# EAGLE library part ADF4002 (library adf4002)
Phase Detector/Frequency Synthesizer
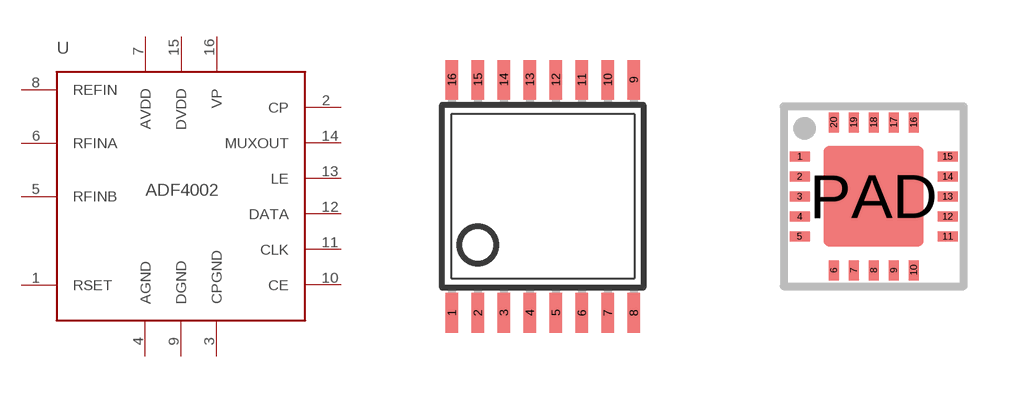
[diagram p0: symbol with the pads of TSSOP16; footprints TSSOP16, LFCSP20]

Designator prefix -

## ADF4002TSSOP16  [TSSOP16]
1  RSET
2  CP
3  CPGND
4  AGND
5  RFINB
6  RFINA
7  AVDD
8  REFIN
9  DGND
10  CE
11  CLK
12  DATA
13  LE
14  MUXOUT
15  DVDD
16  VP

## ADF4002LFCSP20  [LFCSP20]
1  CPGND
2  AGND
3  AGND
4  RFINB
5  RFINA
6  AVDD
7  AVDD
8  REFIN
9  DGND
10  DGND
11  CE
12  CLK
13  DATA
14  LE
15  MUXOUT
16  DVDD
17  DVDD
18  VP
19  RSET
20  CP
PAD  AGND

## Footprint TSSOP16 (pad centres in mm)
Thin Shrink Small Outline Plastic 16 ADF4002 <http://www.analog.com/media/en/technical-documentation/data-sheets/ADF4002.pdf>
smd 0.305 x 0.991: 1 -2.275,-2.918; 2 -1.625,-2.918; 3 -0.975,-2.918; 4 -0.325,-2.918; 5 0.325,-2.918; 6 0.975,-2.918; 7 1.625,-2.918; 8 2.275,-2.918; 9 2.275,2.918; 10 1.625,2.918; 11 0.975,2.918; 12 0.325,2.918; 13 -0.325,2.918; 14 -0.975,2.918; 15 -1.625,2.918; 16 -2.275,2.918

## Footprint LFCSP20 (pad centres in mm)
Thin Shrink Small Outline Plastic 16 MAX3223-MAX3243.pdf
smd 0.5 x 0.25: 1 -1.85,1; 2 -1.85,0.5; 3 -1.85,0; 4 -1.85,-0.5; 5 -1.85,-1; 11 1.85,-1; 12 1.85,-0.5; 13 1.85,0; 14 1.85,0.5; 15 1.85,1
smd 0.25 x 0.5: 6 -1,-1.85; 7 -0.5,-1.85; 8 0,-1.85; 9 0.5,-1.85; 10 1,-1.85; 16 1,1.85; 17 0.5,1.85; 18 0,1.85; 19 -0.5,1.85; 20 -1,1.85
smd 2.5 x 2.5: PAD 0,0